# Altium schematic symbol library Header.SchLib: 3 symbols
Pins are listed as number, name and electrical type; pins without a type are passive.

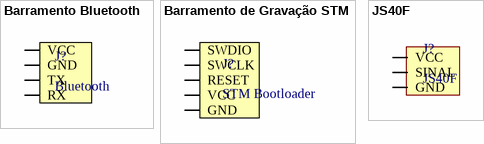
[diagram p0: symbols Barramento Bluetooth to JS40F]

## Barramento Bluetooth
designator J?, comment Bluetooth
BARRAMENTO BLUETOOTH HC-06; Number of Contacts: 4; Bluetooth Mode: Slave Only; Operating Voltage: 3,6 / 6 (V); Max Range: 10m; Frequency: 2,4 GHz; Modulation: GFSK (Gaussian Frequency Shift Keying); Recomended Operating Configuration: 5V @ 50mA; Maximum Serial Transmission Rate: 9600 bps; Library Ref: Header
footprint BLUETOOTH
pins: GND, RX, TX, VCC

## Barramento de Gravação STM
designator J?, comment STM Bootloader
BARRAMENTO DE GRAVAÇÃO; Number of Contacts: 5; Library Ref: Header
footprint STM BOOTLOADER
pins: CLK SWCLK, DIO SWDIO, GND, RESET, VCC

## JS40F
designator J?
JS40F HEADER 3 PIN; Voltage (min - max): 3.3V to 5V; Wire: 15cm; White distancing: 80cm; Black distancing: 40cm; Responsing time: 0.3s; Output type: Digital; Part Number: JS40F; Package: 17.7mm Length x 11.5mm Width x 12.6mm Height; Weight: 4g; ComponentLink1Description: Supplier link; ComponentLink1URL: https://www.jsumo.com/js40f-digital-distance-sensor-min-40-cm-range; Library Control - Checked Footprint: *; Library Control - Last Project that Used: *; Library Control - Last Update: *; Library Control - Person that Checked Footprint: *; Library Control - Person that Checked Schematic: *; Library Control - Person that did the Last Update Footprint: *; Library Control - Person that did the Last Update Schematic: *; Price: $14.90
footprint jS40F
pins: GND, SIN SINAL, VCC